# EAGLE library part V__10-MT-28GK (library ++Bedrahtet)
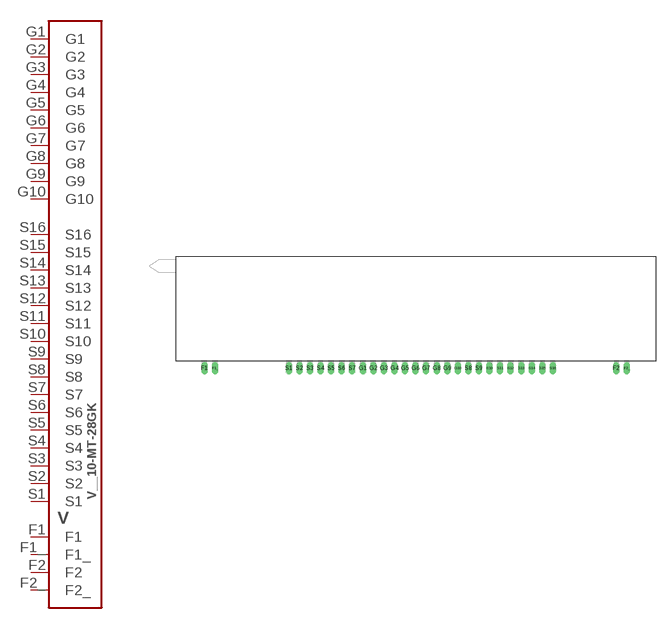
[diagram p66: symbol with the pads of VFD_10-MT-28GK; footprint VFD_10-MT-28GK]

Designator prefix V

## V__10-MT-28GK  [VFD_10-MT-28GK]
F1  F1
F1_  F1_
F2  F2
F2_  F2_
G1  G1
G2  G2
G3  G3
G4  G4
G5  G5
G6  G6
G7  G7
G8  G8
G9  G9
G10  G10
S1  S1
S2  S2
S3  S3
S4  S4
S5  S5
S6  S6
S7  S7
S8  S8
S9  S9
S10  S10
S11  S11
S12  S12
S13  S13
S14  S14
S15  S15
S16  S16

## Footprint VFD_10-MT-28GK (pad centres in mm)
drill 1 long: F1 0,0; F1_ 2.54,0; F2 99.06,0; F2_ 101.6,0; G1 38.1,0; G2 40.64,0; G3 43.18,0; G4 45.72,0; G5 48.26,0; G6 50.8,0; G7 53.34,0; G8 55.88,0; G9 58.42,0; G10 60.96,0; S1 20.32,0; S2 22.86,0; S3 25.4,0; S4 27.94,0; S5 30.48,0; S6 33.02,0; S7 35.56,0; S8 63.5,0; S9 66.04,0; S10 68.58,0; S11 71.12,0; S12 73.66,0; S13 76.2,0; S14 78.74,0; S15 81.28,0; S16 83.82,0